# Altium footprint library Radiator_X2..PcbLib: 1 footprints
Each footprint in its own frame and in the unit in brackets; x right, y up, seen from the top. Pads: shape width x height; smd on the part's side, far side on the other; paste and mask are expansions set on the pad; w line width, h text height; cw(c..) or ccw(c..) is an arc to the next point about the centre after c.
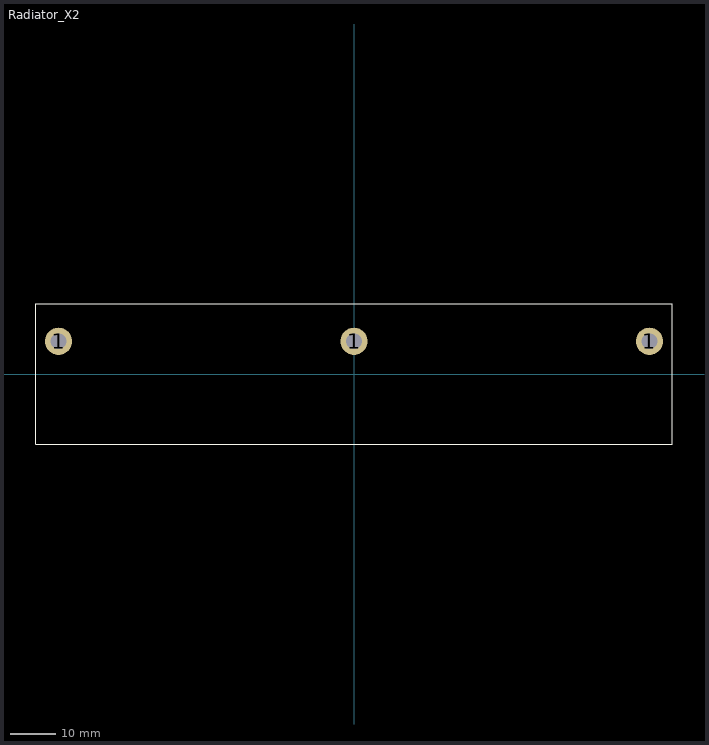
[diagram p0: the footprint, top view; thin cyan lines are the x and y axes]

## Radiator_X2 [mm]
pads (3):
  round 6 hole 3.5: 1(-65,7.2) 1(0,7.2) 1(65,7.2)
Top Overlay:
  lines w0.254: -70,-15.5 70,-15.5 70,15.5 -70,15.5 -70,-15.5
3D body "HeatSink TO-220(247).STEP": height 68, standoff 0, extent -70,-15.343 70,15.35